# EAGLE library part HEADER12X02 (library custom)
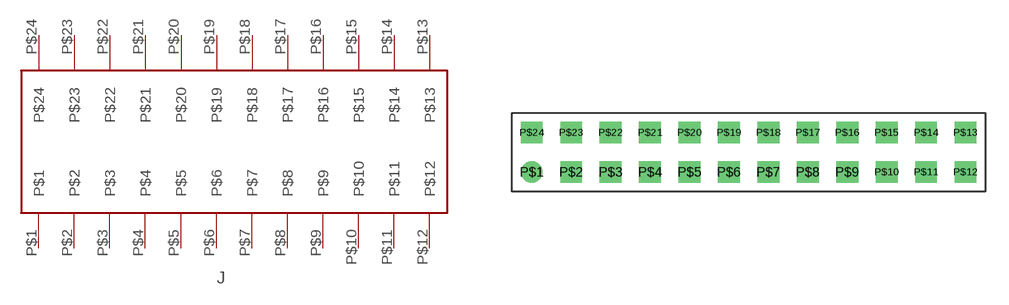
[diagram p20: symbol with the pads of HEADER12X02_.1_.1; footprint HEADER12X02_.1_.1]

Designator prefix J

## HEADER12X02  [HEADER12X02_.1_.1]
P$1  P$1
P$2  P$2
P$3  P$3
P$4  P$4
P$5  P$5
P$6  P$6
P$7  P$7
P$8  P$8
P$9  P$9
P$10  P$10
P$11  P$11
P$12  P$12
P$13  P$13
P$14  P$14
P$15  P$15
P$16  P$16
P$17  P$17
P$18  P$18
P$19  P$19
P$20  P$20
P$21  P$21
P$22  P$22
P$23  P$23
P$24  P$24

## Footprint HEADER12X02_.1_.1 (pad centres in mm)
drill 0.9 round: P$1 -13.97,-1.27
drill 0.9 square: P$2 -11.43,-1.27; P$3 -8.89,-1.27; P$4 -6.35,-1.27; P$5 -3.81,-1.27; P$6 -1.27,-1.27; P$7 1.27,-1.27; P$8 3.81,-1.27; P$9 6.35,-1.27; P$10 8.89,-1.27; P$11 11.43,-1.27; P$12 13.97,-1.27; P$13 13.97,1.27; P$14 11.43,1.27; P$15 8.89,1.27; P$16 6.35,1.27; P$17 3.81,1.27; P$18 1.27,1.27; P$19 -1.27,1.27; P$20 -3.81,1.27; P$21 -6.35,1.27; P$22 -8.89,1.27; P$23 -11.43,1.27; P$24 -13.97,1.27